# EAGLE library part SOLDERPAD2 (library logik2)
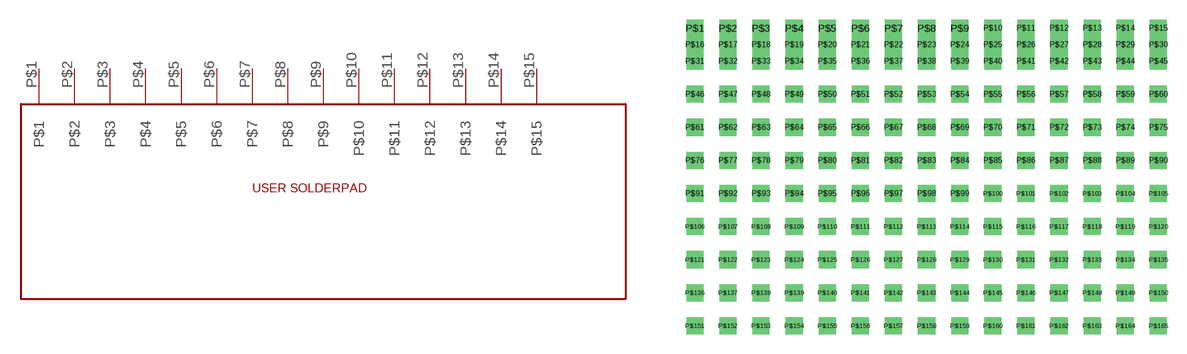
[diagram p24: symbol with the pads of SOLDERPAD2; footprint SOLDERPAD2]

Designator prefix -

## SOLDERPAD2  [SOLDERPAD2]
P$1  P$1
P$2  P$2
P$3  P$3
P$4  P$4
P$5  P$5
P$6  P$6
P$7  P$7
P$8  P$8
P$9  P$9
P$10  P$10
P$11  P$11
P$12  P$12
P$13  P$13
P$14  P$14
P$15  P$15

## Footprint SOLDERPAD2 (pad centres in mm)
drill 0.8 square: P$1 -27.94,7.62; P$2 -25.4,7.62; P$3 -22.86,7.62; P$4 -20.32,7.62; P$5 -17.78,7.62; P$6 -15.24,7.62; P$7 -12.7,7.62; P$8 -10.16,7.62; P$9 -7.62,7.62; P$10 -5.08,7.62; P$11 -2.54,7.62; P$12 0,7.62; P$13 2.54,7.62; P$14 5.08,7.62; P$15 7.62,7.62; P$16 -27.94,6.35; P$17 -25.4,6.35; P$18 -22.86,6.35; P$19 -20.32,6.35; P$20 -17.78,6.35; P$21 -15.24,6.35; P$22 -12.7,6.35; P$23 -10.16,6.35; P$24 -7.62,6.35; P$25 -5.08,6.35; P$26 -2.54,6.35; P$27 0,6.35; P$28 2.54,6.35; P$29 5.08,6.35; P$30 7.62,6.35; P$31 -27.94,5.08; P$32 -25.4,5.08; P$33 -22.86,5.08; P$34 -20.32,5.08; P$35 -17.78,5.08; P$36 -15.24,5.08; P$37 -12.7,5.08; P$38 -10.16,5.08; P$39 -7.62,5.08; P$40 -5.08,5.08; P$41 -2.54,5.08; P$42 0,5.08; P$43 2.54,5.08; P$44 5.08,5.08; P$45 7.62,5.08; P$46 -27.94,2.54; P$47 -25.4,2.54; P$48 -22.86,2.54; P$49 -20.32,2.54; P$50 -17.78,2.54; P$51 -15.24,2.54; P$52 -12.7,2.54; P$53 -10.16,2.54; P$54 -7.62,2.54; P$55 -5.08,2.54; P$56 -2.54,2.54; P$57 0,2.54; P$58 2.54,2.54; P$59 5.08,2.54; P$60 7.62,2.54; P$61 -27.94,0; P$62 -25.4,0; P$63 -22.86,0; P$64 -20.32,0; P$65 -17.78,0; P$66 -15.24,0; P$67 -12.7,0; P$68 -10.16,0; P$69 -7.62,0; P$70 -5.08,0; P$71 -2.54,0; P$72 0,0; P$73 2.54,0; P$74 5.08,0; P$75 7.62,0; P$76 -27.94,-2.54; P$77 -25.4,-2.54; P$78 -22.86,-2.54; P$79 -20.32,-2.54; P$80 -17.78,-2.54; P$81 -15.24,-2.54; P$82 -12.7,-2.54; P$83 -10.16,-2.54; P$84 -7.62,-2.54; P$85 -5.08,-2.54; P$86 -2.54,-2.54; P$87 0,-2.54; P$88 2.54,-2.54; P$89 5.08,-2.54; P$90 7.62,-2.54; P$91 -27.94,-5.08; P$92 -25.4,-5.08; P$93 -22.86,-5.08; P$94 -20.32,-5.08; P$95 -17.78,-5.08; P$96 -15.24,-5.08; P$97 -12.7,-5.08; P$98 -10.16,-5.08; P$99 -7.62,-5.08; P$100 -5.08,-5.08; P$101 -2.54,-5.08; P$102 0,-5.08; P$103 2.54,-5.08; P$104 5.08,-5.08; P$105 7.62,-5.08; P$106 -27.94,-7.62; P$107 -25.4,-7.62; P$108 -22.86,-7.62; P$109 -20.32,-7.62; P$110 -17.78,-7.62; P$111 -15.24,-7.62; P$112 -12.7,-7.62; P$113 -10.16,-7.62; P$114 -7.62,-7.62; P$115 -5.08,-7.62; P$116 -2.54,-7.62; P$117 0,-7.62; P$118 2.54,-7.62; P$119 5.08,-7.62; P$120 7.62,-7.62; P$121 -27.94,-10.16; P$122 -25.4,-10.16; P$123 -22.86,-10.16; P$124 -20.32,-10.16; P$125 -17.78,-10.16; P$126 -15.24,-10.16; P$127 -12.7,-10.16; P$128 -10.16,-10.16; P$129 -7.62,-10.16; P$130 -5.08,-10.16; P$131 -2.54,-10.16; P$132 0,-10.16; P$133 2.54,-10.16; P$134 5.08,-10.16; P$135 7.62,-10.16; P$136 -27.94,-12.7; P$137 -25.4,-12.7; P$138 -22.86,-12.7; P$139 -20.32,-12.7; P$140 -17.78,-12.7; P$141 -15.24,-12.7; P$142 -12.7,-12.7; P$143 -10.16,-12.7; P$144 -7.62,-12.7; P$145 -5.08,-12.7; P$146 -2.54,-12.7; P$147 0,-12.7; P$148 2.54,-12.7; P$149 5.08,-12.7; P$150 7.62,-12.7; P$151 -27.94,-15.24; P$152 -25.4,-15.24; P$153 -22.86,-15.24; P$154 -20.32,-15.24; P$155 -17.78,-15.24; P$156 -15.24,-15.24; P$157 -12.7,-15.24; P$158 -10.16,-15.24; P$159 -7.62,-15.24; P$160 -5.08,-15.24; P$161 -2.54,-15.24; P$162 0,-15.24; P$163 2.54,-15.24; P$164 5.08,-15.24; P$165 7.62,-15.24